# Altium schematic symbol library SBTC-2-10L&plus_.SchLib: 2 symbols
Pins are listed as number, name and electrical type; pins without a type are passive.

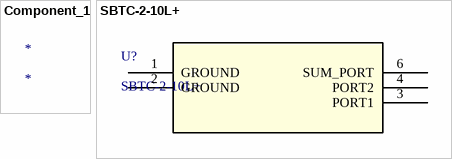
[diagram p0: symbols Component_1 to SBTC-2-10L+]

## Component_1
designator *

## SBTC-2-10L+
designator U?
No Description Available; Mfr_Name: Mini Circuits; Copyright: Copyright (C) 2023 Ultra Librarian. All rights reserved.; Manufacturer_Part_Number: SBTC-2-10L+; RefDes: RefDes; Type: DEV
footprint AT1029_MNC
pins: 1 GROUND, 2 GROUND, 3 PORT1, 4 PORT2, 6 SUM_PORT